# EAGLE library part 734-276 (library con-wago_3.81mm)
Serie 734, Stiftleiste (für Leiterplatten) Einlötstift abgewinkelt 1 x 1 mm / Series 734, Male header (for PCBs) Angled solder pin 1 x 1 mm Polzahl / Pole No.: 16 Rastermaß / Pitch: 3.81 mm Bemessungsspannung / Rated Voltage: 160 V Nennstrom / Nominal Current: 10 A Lötstiftlänge: / Solder Pin Length: 3.8 mm Farbe / Color: orange / orange Stand: 01.01.2012. Die jeweils aktuellen Daten zu diesem Artikel finden Sie in unserem Produktkatalog, den Sie unter www.wago.com einsehen können. As of: 01/01/2012. Please find the newest data for this article in our product catalogue, which can be viewed under www.wago.com.
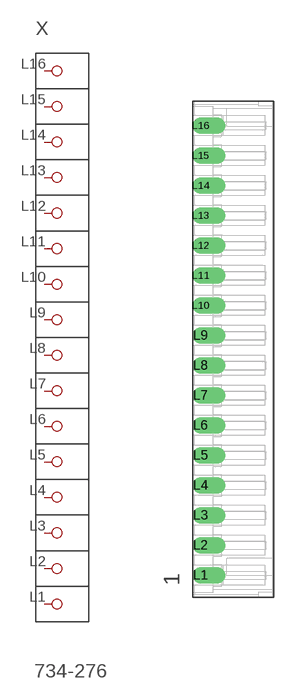
[diagram p14: symbol with the pads of P-734-276; footprint P-734-276]

Designator prefix X

## 734-276  [P-734-276]
L1  P1
L2  P2
L3  P3
L4  P4
L5  P5
L6  P6
L7  P7
L8  P8
L9  P9
L10  P10
L11  P11
L12  P12
L13  P13
L14  P14
L15  P15
L16  P16

## Footprint P-734-276 (pad centres in mm)
drill 1.4 pad 2 offset: L1 -4.15,-28.725; L2 -4.15,-24.915; L3 -4.15,-21.105; L4 -4.15,-17.295; L5 -4.15,-13.485; L6 -4.15,-9.675; L7 -4.15,-5.865; L8 -4.15,-2.055; L9 -4.15,1.755; L10 -4.15,5.565; L11 -4.15,9.375; L12 -4.15,13.185; L13 -4.15,16.995; L14 -4.15,20.805; L15 -4.15,24.615; L16 -4.15,28.425